# EAGLE library part STK-681-332_UNI (library STK-681-332-uni)
STK681-332 universal version
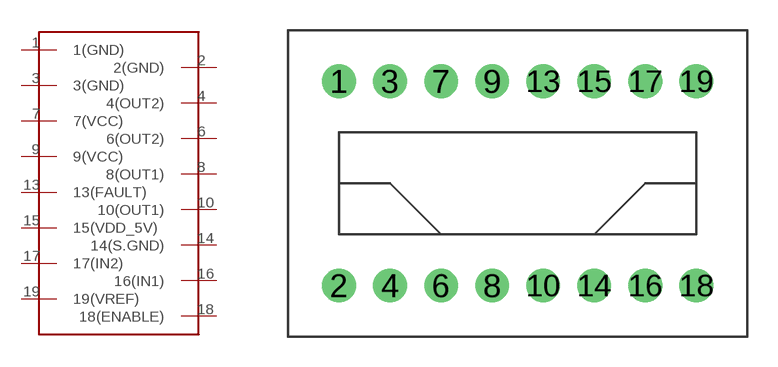
[diagram p0: symbol with the pads of STK681-332_UNI; footprint STK681-332_UNI]

Designator prefix -

## STK-681-332_UNI  [STK681-332_UNI]
1  1(GND)
2  2(GND)
3  3(GND)
4  4(OUT2)
6  6(OUT2)
7  7(VCC)
8  8(OUT1)
9  9(VCC)
10  10(OUT1)
13  13(FAULT)
14  14(S.GND)
15  15(VDD_5V)
16  16(IN1)
17  17(IN2)
18  18(ENABLE)
19  19(VREF)

## Footprint STK681-332_UNI (pad centres in mm)
drill 0.8 pad 1.676 round: 1 0,10.16; 2 0,0; 3 2.54,10.16; 4 2.54,0; 6 5.08,0; 7 5.08,10.16; 8 7.62,0; 9 7.62,10.16; 10 10.16,0; 13 10.16,10.16; 14 12.7,0; 15 12.7,10.16; 16 15.24,0; 17 15.24,10.16; 18 17.78,0; 19 17.78,10.16